# Altium schematic symbol library BMS_1S.SchLib: 1 symbol
Pins are listed as number, name and electrical type; pins without a type are passive.

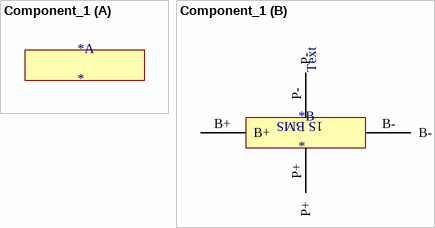
[diagram p0: symbol Component_1]

## Component_1
designator *
part B pins: B+, B-, P+, P-
part B text: Text; 1S BMS